# EAGLE library part MSF8 (library con-lumberg)
MSF CONNECTOR
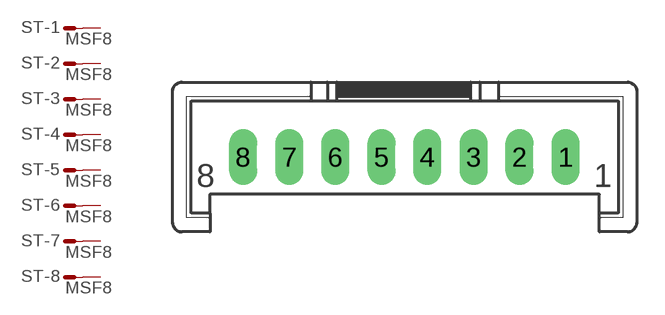
[diagram p13: symbol with the pads of MSF8; footprint MSF8]

Designator prefix ST; gates -1=M -2=M -3=M -4=M -5=M -6=M -7=M -8=M

## MSF8 (OC_FARNELL: unknown; OC_NEWARK: unknown)  [MSF8]
1  -1:S  pas
2  -2:S  pas
3  -3:S  pas
4  -4:S  pas
5  -5:S  pas
6  -6:S  pas
7  -7:S  pas
8  -8:S  pas

## Footprint MSF8 (pad centres in mm)
MSF CONNECTOR
drill 1.016 long: 1 8.763,-2.54; 2 6.248,-2.54; 3 3.759,-2.54; 4 1.245,-2.54; 5 -1.245,-2.54; 6 -3.759,-2.54; 7 -6.248,-2.54; 8 -8.763,-2.54